# EAGLE library part AS5043 (library MDB_HOMEBAK)
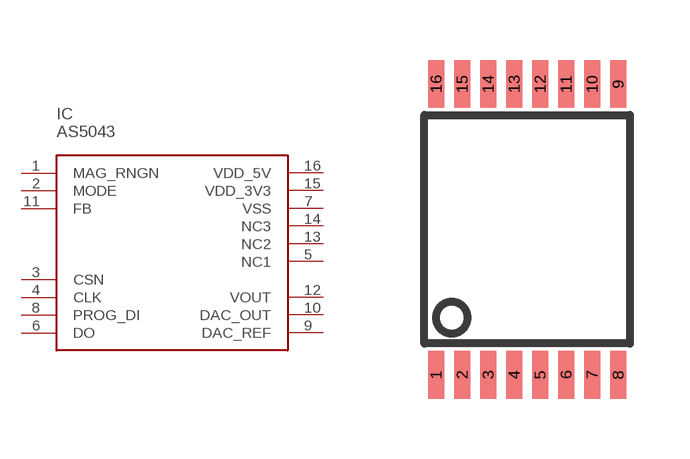
[diagram p1: symbol with the pads of SSOP_W; footprint SSOP_W]

Designator prefix IC

## AS5043_SSOP_WI  [SSOP_W]
1  MAG_RNGN
2  MODE
3  CSN
4  CLK
5  NC1
6  DO
7  VSS
8  PROG_DI
9  DAC_REF
10  DAC_OUT
11  FB
12  VOUT
13  NC2
14  NC3
15  VDD_3V3
16  VDD_5V

## Footprint SSOP_W (pad centres in mm)
smd 0.4 x 1.2: 1 -2.275,-2.925; 2 -1.625,-2.925; 3 -0.975,-2.925; 4 -0.325,-2.925; 5 0.325,-2.925; 6 0.975,-2.925; 7 1.625,-2.925; 8 2.275,-2.925; 9 2.275,4.354; 10 1.625,4.354; 11 0.975,4.354; 12 0.325,4.354; 13 -0.325,4.354; 14 -0.975,4.354; 15 -1.625,4.354; 16 -2.275,4.354